# EAGLE library part HT12E (library Holtek_By_element14_Batch_1)
Decoders
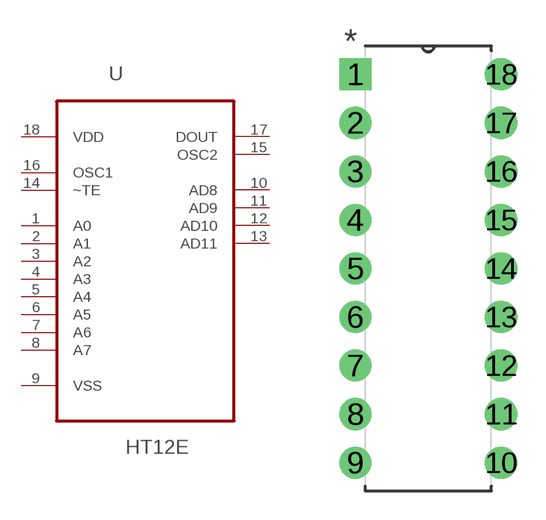
[diagram p1: symbol with the pads of DIP254P762X342-18; footprint DIP254P762X342-18]

Designator prefix U

## HT12E (MPN: HT12E; OC_FARNELL: 1211512; OC_NEWARK: 24M2762; PACKAGE: DIP-18; SUPPLIER: HOLTEK)  [DIP254P762X342-18]
1  A0  in
2  A1  in
3  A2  in
4  A3  in
5  A4  in
6  A5  in
7  A6  in
8  A7  in
9  VSS  pwr
10  AD8
11  AD9
12  AD10
13  AD11
14  ~TE  in
15  OSC2  out
16  OSC1  in
17  DOUT  out
18  VDD  pwr

## Footprint DIP254P762X342-18 (pad centres in mm)
drill 1.118 square: 1 -7.62,20.32
drill 1.118: 2 -7.62,17.78; 3 -7.62,15.24; 4 -7.62,12.7; 5 -7.62,10.16; 6 -7.62,7.62; 7 -7.62,5.08; 8 -7.62,2.54; 9 -7.62,0; 10 0,0; 11 0,2.54; 12 0,5.08; 13 0,7.62; 14 0,10.16; 15 0,12.7; 16 0,15.24; 17 0,17.78; 18 0,20.32